# EAGLE library part PRO_MICRO (library Custom_old)
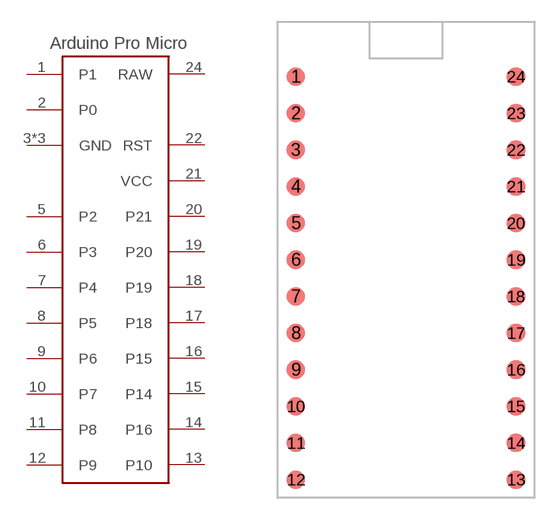
[diagram p21: symbol with the pads of PRO_MICRO; footprint PRO_MICRO]

Designator prefix -

## PRO_MICRO  [PRO_MICRO]
1  P1
2  P0
3  GND
4  GND
5  P2
6  P3
7  P4
8  P5
9  P6
10  P7
11  P8
12  P9
13  P10
14  P16
15  P14
16  P15
17  P18
18  P19
19  P20
20  P21
21  VCC
22  RST
23  GND
24  RAW

## Footprint PRO_MICRO (pad centres in mm)
smd 1.27 x 1.27: 1 0,0; 2 0,-2.54; 3 0,-5.08; 4 0,-7.62; 5 0,-10.16; 6 0,-12.7; 7 0,-15.24; 8 0,-17.78; 9 0,-20.32; 10 0,-22.86; 11 0,-25.4; 12 0,-27.94; 13 15.24,-27.94; 14 15.24,-25.4; 15 15.24,-22.86; 16 15.24,-20.32; 17 15.24,-17.78; 18 15.24,-15.24; 19 15.24,-12.7; 20 15.24,-10.16; 21 15.24,-7.62; 22 15.24,-5.08; 23 15.24,-2.54; 24 15.24,0